# Altium footprint library C_10x16x5.PcbLib: 1 footprints
Each footprint in its own frame and in the unit in brackets; x right, y up, seen from the top. Pads: shape width x height; smd on the part's side, far side on the other; paste and mask are expansions set on the pad; w line width, h text height; cw(c..) or ccw(c..) is an arc to the next point about the centre after c.
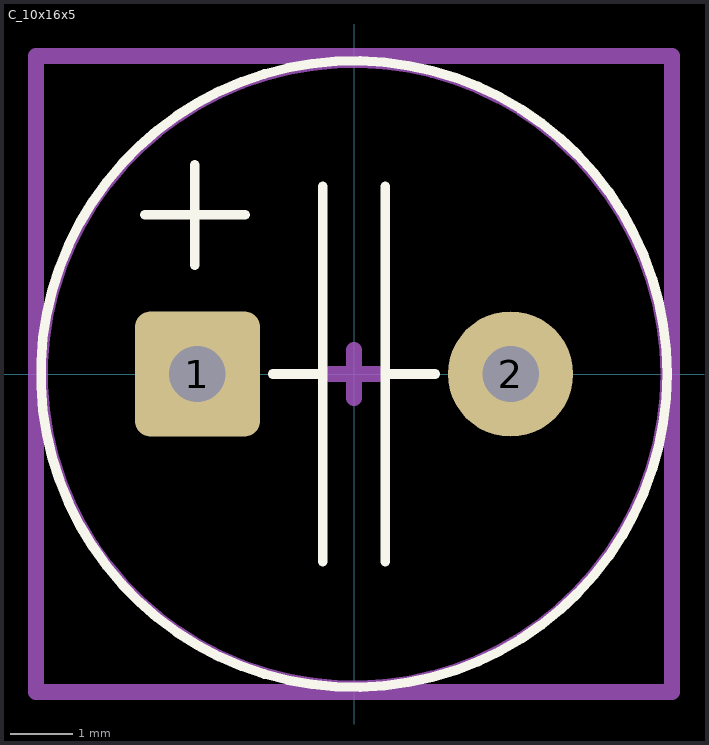
[diagram p0: the footprint, top view; thin cyan lines are the x and y axes]

## C_10x16x5 [mm]
pads (2):
  rrect25% 2x2 hole 0.9: 1(-2.5,0)
  round 2 hole 0.9: 2(2.5,0)
Top Overlay:
  circle w0.152: c0,0 r5
  lines w0.152: -3.34,2.54 -1.74,2.54 ; -2.54,1.74 -2.54,3.34 ; -1.3,0 -0.5,0 ; -0.5,-3 -0.5,3 ; 0.5,-3 0.5,3 ; 0.5,0 1.3,0
Top Assembly:
  circle w0.127: c0,-0.003 r4.953
Top Courtyard:
  lines w0.254: -0.381,0 0.381,0 0,0 ; 0,0.381 0,0 ; 0,0 0,-0.381 0,0 ; -5.08,-5.08 5.08,-5.08 5.08,5.08 -5.08,5.08 -5.08,-5.08
3D body "ElectroCap20x10mm.stp": height 20, standoff -3.5, extent -5,-5.003 5,4.997